# EAGLE library part LT1763 (library linear-technology)
500mA, Low Noise, LDO Micropower Regulators Source: http://cds.linear.com/docs/Datasheet/1763ff.pdf
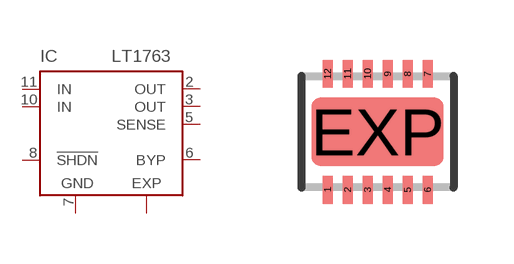
[diagram p23: symbol with the pads of DFN12; footprint DFN12]

Designator prefix IC

## LT1763CDE, LT1763CDE-1.5, LT1763CDE-1.8, LT1763CDE-2.5, LT1763CDE-3.3, LT1763CDE-3, LT1763CDE-5, LT1763IDE, LT1763IDE-1.5, LT1763IDE-1.8, LT1763IDE-2.5, LT1763IDE-3.3, LT1763IDE-3, LT1763IDE-5  [DFN12]
2  OUT  pas
3  OUT  pas
5  SENSE  in
6  BYP  in
7  GND  pwr
8  !SHDN  in
10  IN  in
11  IN  in
EXP  EXP  pwr

## Footprint DFN12 (pad centres in mm)
DE/UE Package 12-Lead Plastic DFN (4mm × 3mm) Source: http://cds.linear.com/docs/Datasheet/1763ff.pdf
smd 0.25 x 0.7: 1 -1.25,-1.45; 2 -0.75,-1.45; 3 -0.25,-1.45; 4 0.25,-1.45; 5 0.75,-1.45; 6 1.25,-1.45; 7 1.25,1.45; 8 0.75,1.45; 9 0.25,1.45; 10 -0.25,1.45; 11 -0.75,1.45; 12 -1.25,1.45
smd 3.3 x 1.7: EXP 0,0